# Altium footprint library Capacitors.PcbLib: 17 footprints (part 2 of 2)
Each footprint in its own frame and in the unit in brackets; x right, y up, seen from the top. Pads: shape width x height; smd on the part's side, far side on the other; paste and mask are expansions set on the pad; w line width, h text height; cw(c..) or ccw(c..) is an arc to the next point about the centre after c.
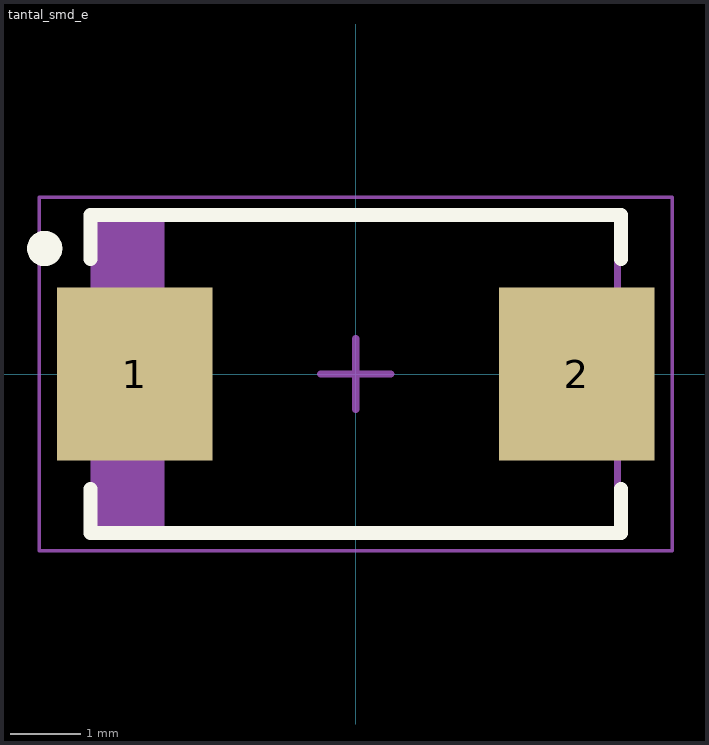
[diagram p1: the footprint, top view; thin cyan lines are the x and y axes]

## tantal_smd_e [mm]
height 4
pads (2):
  rect 2.2x2.45 smd: 1(-3.125,0) 2(3.125,0)
Top Overlay:
  circle w0.25: c-4.4,1.775 r0.125
  lines w0.2: -3.75,-1.625 -3.75,-2.25 3.75,-2.25 3.75,-1.625 ; -3.75,1.625 -3.75,2.25 3.75,2.25 3.75,1.625
Top Assy:
  rectangle: -3.7,-2.2 -2.705,2.2
  lines w0.1: -3.7,-2.2 3.7,-2.2 3.7,2.2 -3.7,2.2 -3.7,-2.2
Top ConturComponent:
  lines w0.05: -4.475,-2.5 4.475,-2.5 4.475,2.5 -4.475,2.5 -4.475,-2.5
  lines w0.1: -0.5,0 0.5,0 ; 0,-0.5 0,0.5
3D body "tantal_smd_e.step": height 4, standoff 0, extent -3.92,-2.2 3.92,2.2